# EAGLE library part BQ25040DQCR (library BQ25040DQCR)
1.1A, Single-Input, Single Cell Li-Ion Battery Charger With 50mA LDO in 2x3 QFN Source: Datasheet <http://www.ti.com/lit/gpn/bq25040>
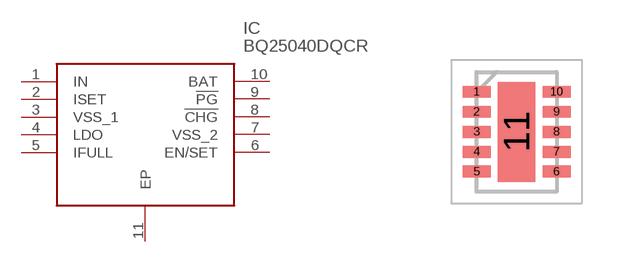
[diagram p0: symbol with the pads of SON50P200X300X80-11N; footprint SON50P200X300X80-11N]

Designator prefix IC

## BQ25040DQCR (Description: 1.1A, Single-Input, Single Cell Li-Ion Battery Charger With 50mA LDO in 2x3 QFN; Height: 0.8mm; Manufacturer_Name: Texas Instruments; Manufacturer_Part_Number: BQ25040DQCR; Mouser_Part_Number: 595-BQ25040DQCR; Mouser_Price-Stock: https://www.mouser.co.uk/ProductDetail/Texas-Instruments/BQ25040DQCR?qs=LWWr1WFOkdGauR4seMHvtw%3D%3D)  [SON50P200X300X80-11N]
1  IN
2  ISET
3  VSS_1
4  LDO
5  IFULL
6  EN/SET
7  VSS_2
8  !CHG
9  !PG
10  BAT
11  EP

## Footprint SON50P200X300X80-11N (pad centres in mm)
DQC0010A
smd 0.7 x 0.3: 1 -1,1; 2 -1,0.5; 3 -1,0; 4 -1,-0.5; 5 -1,-1; 6 1,-1; 7 1,-0.5; 8 1,0; 9 1,0.5; 10 1,1
smd 0.94 x 2.5: 11 0,0